# Altium footprint library TPM8837C-DF4R.PcbLib: 3 footprints
Each footprint in its own frame and in the unit in brackets; x right, y up, seen from the top. Pads: shape width x height; smd on the part's side, far side on the other; paste and mask are expansions set on the pad; w line width, h text height; cw(c..) or ccw(c..) is an arc to the next point about the centre after c.
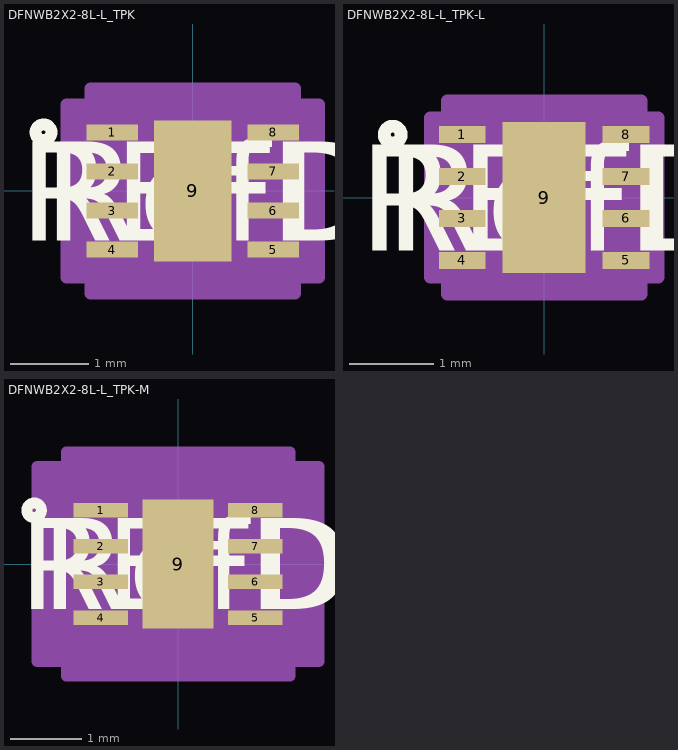
[diagram p0: the footprints below, top view; thin cyan lines are the x and y axes]

## DFNWB2X2-8L-L_TPK [mil]
pads (9):
  rect 26x8 smd paste+0 mask+0: 1(-40.5,29.53) 2(-40.5,9.84) 3(-40.5,-9.84) 4(-40.5,-29.53) 5(40.5,-29.53) 6(40.5,-9.84) 7(40.5,9.84) 8(40.5,29.53)
  rect 39x71 smd paste+0 mask+0: 9(0,0)
Top Overlay:
  circle w6: c-75.19,29.53 r4
  text "RefDes" at -75,-25 h50
  text "REFDES" at -87.5,-25 h50
Mechanical 13:
  circle w0: c-27.5,29.53 r3
  lines w0: -12,41.5 ccw(c0,41.5) 12,41.5
  lines w1: -41.5,-41.5 41.5,-41.5 41.5,41.5 -41.5,41.5 -41.5,-41.5
  text "RefDes2" at -87.5,-25 h50
Mechanical 15:
  region: -51.5,-43.53 -63.5,-43.53 -63.5,43.53 -51.5,43.53 -51.5,51.5 51.5,51.5 51.5,43.53 63.5,43.53 63.5,-43.53 51.5,-43.53 51.5,-51.5 -51.5,-51.5
  lines w6: -63.5,-43.53 -63.5,43.53 -51.5,43.53 -51.5,51.5 51.5,51.5 51.5,43.53 63.5,43.53 63.5,-43.53 51.5,-43.53 51.5,-51.5 -51.5,-51.5 -51.5,-43.53 -63.5,-43.53
3D body "DFNWB2X2-8L-L_TPK.step": height 24.09, standoff 0, extent -41.5,-41.5 41.5,41.5

## DFNWB2X2-8L-L_TPK-L [mil]
pads (9):
  rect 22x8 smd paste+0 mask+0: 1(-38.5,29.53) 2(-38.5,9.84) 3(-38.5,-9.84) 4(-38.5,-29.53) 5(38.5,-29.53) 6(38.5,-9.84) 7(38.5,9.84) 8(38.5,29.53)
  rect 39x71 smd paste+0 mask+0: 9(0,0)
Top Overlay:
  circle w6: c-71.19,29.53 r4
  text "RefDes" at -75,-25 h50
  text "REFDES" at -87.5,-25 h50
Mechanical 13:
  circle w0: c-27.5,29.53 r3
  lines w0: -12,41.5 ccw(c0,41.5) 12,41.5
  lines w1: -41.5,-41.5 41.5,-41.5 41.5,41.5 -41.5,41.5 -41.5,-41.5
  text "RefDes2" at -87.5,-25 h50
Mechanical 15:
  region: -45.5,-37.53 -53.5,-37.53 -53.5,37.53 -45.5,37.53 -45.5,45.5 45.5,45.5 45.5,37.53 53.5,37.53 53.5,-37.53 45.5,-37.53 45.5,-45.5 -45.5,-45.5
  lines w6: -53.5,-37.53 -53.5,37.53 -45.5,37.53 -45.5,45.5 45.5,45.5 45.5,37.53 53.5,37.53 53.5,-37.53 45.5,-37.53 45.5,-45.5 -45.5,-45.5 -45.5,-37.53 -53.5,-37.53
3D body "DFNWB2X2-8L-L_TPK.step": height 24.09, standoff 0, extent -41.5,-41.5 41.5,41.5

## DFNWB2X2-8L-L_TPK-M [mil]
pads (9):
  rect 30x8 smd paste+0 mask+0: 1(-42.5,29.53) 2(-42.5,9.84) 3(-42.5,-9.84) 4(-42.5,-29.53) 5(42.5,-29.53) 6(42.5,-9.84) 7(42.5,9.84) 8(42.5,29.53)
  rect 39x71 smd paste+0 mask+0: 9(0,0)
Top Overlay:
  circle w6: c-79.19,29.53 r4
  text "RefDes" at -75,-25 h50
  text "REFDES" at -87.5,-25 h50
Mechanical 13:
  circle w0: c-27.5,29.53 r3
  lines w0: -12,41.5 ccw(c0,41.5) 12,41.5
  lines w1: -41.5,-41.5 41.5,-41.5 41.5,41.5 -41.5,41.5 -41.5,-41.5
  text "RefDes2" at -87.5,-25 h50
Mechanical 15:
  region: -61.5,-53.53 -77.5,-53.53 -77.5,53.53 -61.5,53.53 -61.5,61.5 61.5,61.5 61.5,53.53 77.5,53.53 77.5,-53.53 61.5,-53.53 61.5,-61.5 -61.5,-61.5
  lines w6: -77.5,-53.53 -77.5,53.53 -61.5,53.53 -61.5,61.5 61.5,61.5 61.5,53.53 77.5,53.53 77.5,-53.53 61.5,-53.53 61.5,-61.5 -61.5,-61.5 -61.5,-53.53 -77.5,-53.53
3D body "DFNWB2X2-8L-L_TPK.step": height 24.09, standoff 0, extent -41.5,-41.5 41.5,41.5